# EAGLE library part RM42L432_PZ_100 (library RM42)
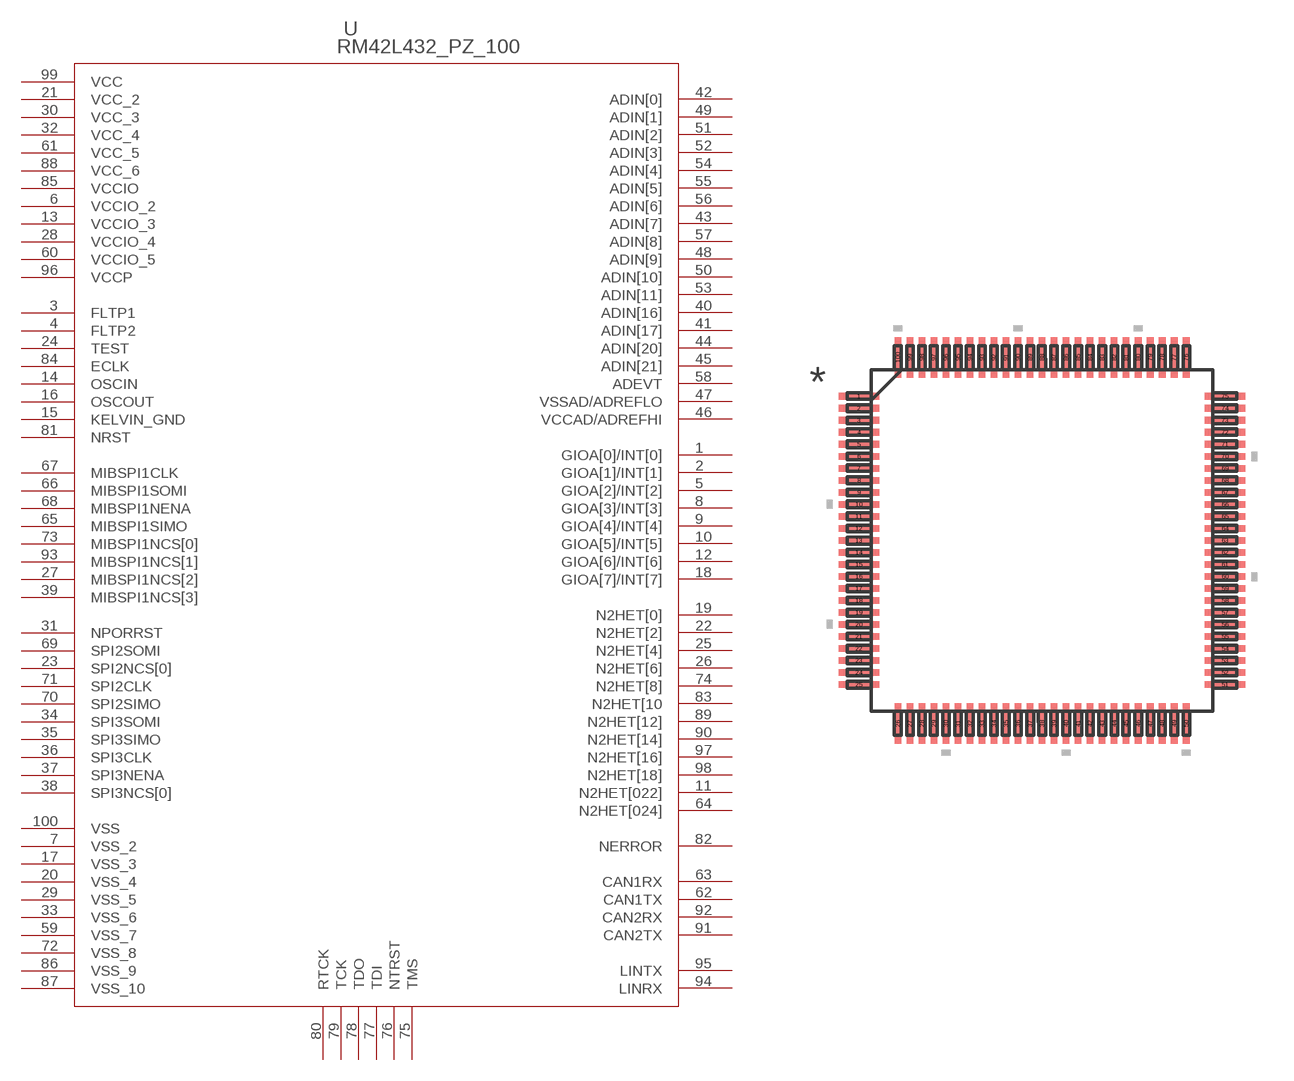
[diagram p0: symbol with the pads of PZ100; footprint PZ100]

Designator prefix U

## RM42L432_PZ_100RM42L432_PZ_100 (MANUFACTURER_PART_NUMBER: rm42l432_pz_100; VENDOR: TEXAS INSTRUMENTS)  [PZ100]
1  GIOA[0]/INT[0]
2  GIOA[1]/INT[1]
3  FLTP1
4  FLTP2
5  GIOA[2]/INT[2]
6  VCCIO_2  pwr
7  VSS_2  pwr
8  GIOA[3]/INT[3]
9  GIOA[4]/INT[4]
10  GIOA[5]/INT[5]
11  N2HET[022]
12  GIOA[6]/INT[6]
13  VCCIO_3  pwr
14  OSCIN
15  KELVIN_GND
16  OSCOUT
17  VSS_3  pwr
18  GIOA[7]/INT[7]
19  N2HET[0]
20  VSS_4  pwr
21  VCC_2  pwr
22  N2HET[2]
23  SPI2NCS[0]
24  TEST
25  N2HET[4]
26  N2HET[6]
27  MIBSPI1NCS[2]
28  VCCIO_4  pwr
29  VSS_5  pwr
30  VCC_3  pwr
31  NPORRST
32  VCC_4  pwr
33  VSS_6  pwr
34  SPI3SOMI
35  SPI3SIMO
36  SPI3CLK
37  SPI3NENA
38  SPI3NCS[0]
39  MIBSPI1NCS[3]
40  ADIN[16]
41  ADIN[17]
42  ADIN[0]
43  ADIN[7]
44  ADIN[20]
45  ADIN[21]
46  VCCAD/ADREFHI
47  VSSAD/ADREFLO
48  ADIN[9]
49  ADIN[1]
50  ADIN[10]
51  ADIN[2]
52  ADIN[3]
53  ADIN[11]
54  ADIN[4]
55  ADIN[5]
56  ADIN[6]
57  ADIN[8]
58  ADEVT
59  VSS_7  pwr
60  VCCIO_5  pwr
61  VCC_5  pwr
62  CAN1TX
63  CAN1RX
64  N2HET[024]
65  MIBSPI1SIMO
66  MIBSPI1SOMI
67  MIBSPI1CLK
68  MIBSPI1NENA
69  SPI2SOMI
70  SPI2SIMO
71  SPI2CLK
72  VSS_8  pwr
73  MIBSPI1NCS[0]
74  N2HET[8]
75  TMS
76  NTRST
77  TDI
78  TDO
79  TCK
80  RTCK
81  NRST
82  NERROR
83  N2HET[10
84  ECLK
85  VCCIO  pwr
86  VSS_9  pwr
87  VSS_10  pwr
88  VCC_6  pwr
89  N2HET[12]
90  N2HET[14]
91  CAN2TX
92  CAN2RX
93  MIBSPI1NCS[1]
94  LINRX
95  LINTX
96  VCCP  pwr
97  N2HET[16]
98  N2HET[18]
99  VCC  pwr
100  VSS  pwr

## Footprint PZ100 (pad centres in mm)
smd 1.676 x 0.279: 1 -7.62,6; 2 -7.62,5.5; 3 -7.62,5; 4 -7.62,4.5; 5 -7.62,4; 6 -7.62,3.5; 7 -7.62,3; 8 -7.62,2.5; 9 -7.62,2; 10 -7.62,1.5; 11 -7.62,1; 12 -7.62,0.5; 13 -7.62,0; 14 -7.62,-0.5; 15 -7.62,-1; 16 -7.62,-1.5; 17 -7.62,-2; 18 -7.62,-2.5; 19 -7.62,-3; 20 -7.62,-3.5; 21 -7.62,-4; 22 -7.62,-4.5; 23 -7.62,-5; 24 -7.62,-5.5; 25 -7.62,-6; 51 7.62,-6; 52 7.62,-5.5; 53 7.62,-5; 54 7.62,-4.5; 55 7.62,-4; 56 7.62,-3.5; 57 7.62,-3; 58 7.62,-2.5; 59 7.62,-2; 60 7.62,-1.5; 61 7.62,-1; 62 7.62,-0.5; 63 7.62,0; 64 7.62,0.5; 65 7.62,1; 66 7.62,1.5; 67 7.62,2; 68 7.62,2.5; 69 7.62,3; 70 7.62,3.5; 71 7.62,4; 72 7.62,4.5; 73 7.62,5; 74 7.62,5.5; 75 7.62,6
smd 0.279 x 1.676: 26 -6,-7.62; 27 -5.5,-7.62; 28 -5,-7.62; 29 -4.5,-7.62; 30 -4,-7.62; 31 -3.5,-7.62; 32 -3,-7.62; 33 -2.5,-7.62; 34 -2,-7.62; 35 -1.5,-7.62; 36 -1,-7.62; 37 -0.5,-7.62; 38 0,-7.62; 39 0.5,-7.62; 40 1,-7.62; 41 1.5,-7.62; 42 2,-7.62; 43 2.5,-7.62; 44 3,-7.62; 45 3.5,-7.62; 46 4,-7.62; 47 4.5,-7.62; 48 5,-7.62; 49 5.5,-7.62; 50 6,-7.62; 76 6,7.62; 77 5.5,7.62; 78 5,7.62; 79 4.5,7.62; 80 4,7.62; 81 3.5,7.62; 82 3,7.62; 83 2.5,7.62; 84 2,7.62; 85 1.5,7.62; 86 1,7.62; 87 0.5,7.62; 88 0,7.62; 89 -0.5,7.62; 90 -1,7.62; 91 -1.5,7.62; 92 -2,7.62; 93 -2.5,7.62; 94 -3,7.62; 95 -3.5,7.62; 96 -4,7.62; 97 -4.5,7.62; 98 -5,7.62; 99 -5.5,7.62; 100 -6,7.62